# Altium schematic symbol library SCH - POWER - LINEAR VREG - TI LM117HVQML_NAC_16.SchLib: 1 symbol
Pins are listed as number, name and electrical type; pins without a type are passive.

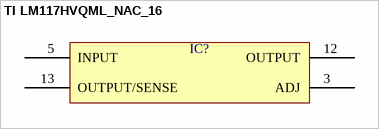
[diagram p0: symbol TI LM117HVQML_NAC_16]

## TI LM117HVQML_NAC_16
designator IC?  (value not drawn)
pins: 3 ADJ, 5 INPUT, 12 OUTPUT, 13 OUTPUT/SENSE